# Altium integrated library Common Power.IntLib: 13 symbols
Pins are listed as number, name and electrical type; pins without a type are passive.

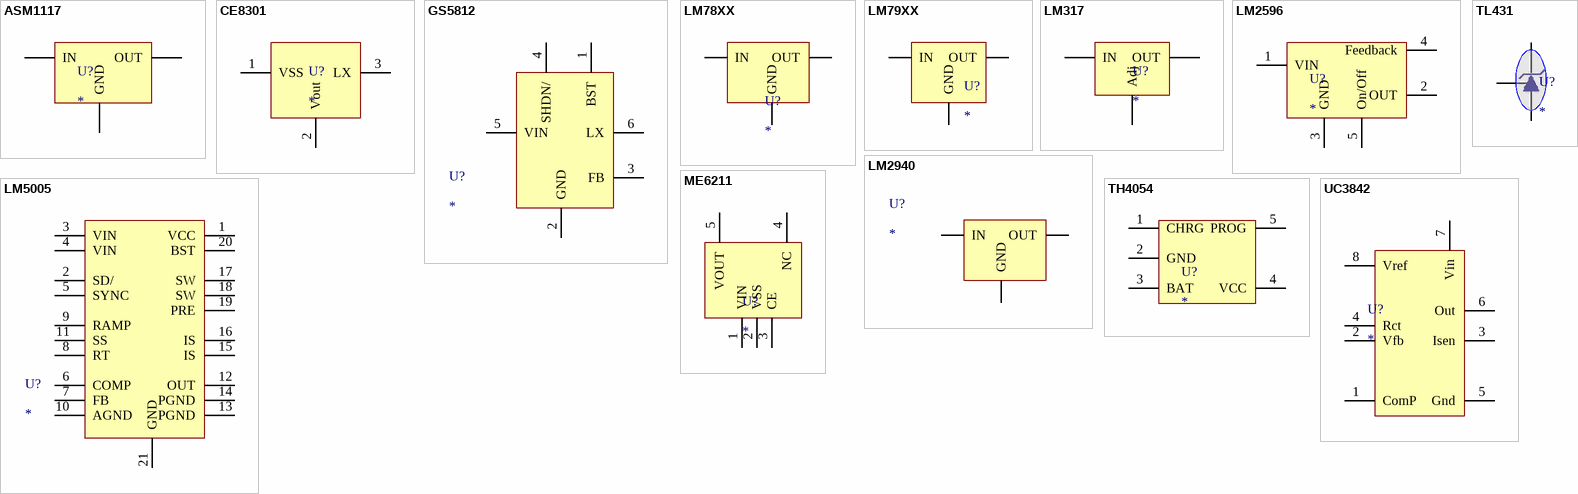
[diagram p0: symbols ASM1117 to UC3842]

## ASM1117
designator U?
footprint SOT-223
pins: 1 GND, 2 OUT, 3 IN

## CE8301
designator U?
footprint SOT-89
pins: 1 VSS, 2 Vout, 3 LX

## GS5812
designator U?
footprint SOT-23-6
pins: 1 BST, 2 GND, 3 FB, 4 SHDN/, 5 VIN, 6 LX

## LM78XX
designator U?
footprint TO-220
footprint TO-252(DPAK)
pins: 1 IN, 2 GND, 3 OUT

## LM79XX
designator U?
footprint TO-220
footprint TO-252(DPAK)
pins: 1 GND, 2 IN, 3 OUT

## LM317
designator U?
footprint TO-220
footprint TO-252(DPAK)
footprint TO-263-3
pins: 1 Adj, 2 OUT, 3 IN

## LM2596
designator U?
footprint TO-220-5
footprint TO-220-5(斜插)
footprint TO-263-5L
pins: 1 VIN, 2 OUT, 3 GND, 4 Feedback, 5 On/Off

## LM2940
designator U?
footprint SOT-223
footprint TO-220
footprint TO-252(DPAK)
footprint TO-263-3
pins: 1 IN, 2 GND, 3 OUT

## LM5005
designator U?
footprint TSSOP-20
pins: 1 VCC, 2 SD/, 3 VIN, 4 VIN, 5 SYNC, 6 COMP, 7 FB, 8 RT, 9 RAMP, 10 AGND, 11 SS, 12 OUT, 13 PGND, 14 PGND, 15 IS, 16 IS, 17 SW, 18 SW, 19 PRE, 20 BST, 21 GND

## ME6211
designator U?
footprint SOT23-5
pins: 1 VIN, 2 VSS, 3 CE, 4 NC, 5 VOUT

## TH4054
designator U?
footprint SOT23-5
pins: 1 CHRG, 2 GND, 3 BAT, 4 VCC, 5 PROG

## TL431
designator U?
footprint SOT-23
pins: 1 REF, 2 A, 3 K

## UC3842
designator U?
footprint DIP-8
footprint SOIC-8
pins: 1 ComP, 2 Vfb, 3 Isen, 4 Rct, 5 Gnd, 6 Out, 7 Vin, 8 Vref